# Altium footprint library BD139_TO-126_BEND.PcbLib: 1 footprints
Each footprint in its own frame and in the unit in brackets; x right, y up, seen from the top. Pads: shape width x height; smd on the part's side, far side on the other; paste and mask are expansions set on the pad; w line width, h text height; cw(c..) or ccw(c..) is an arc to the next point about the centre after c.
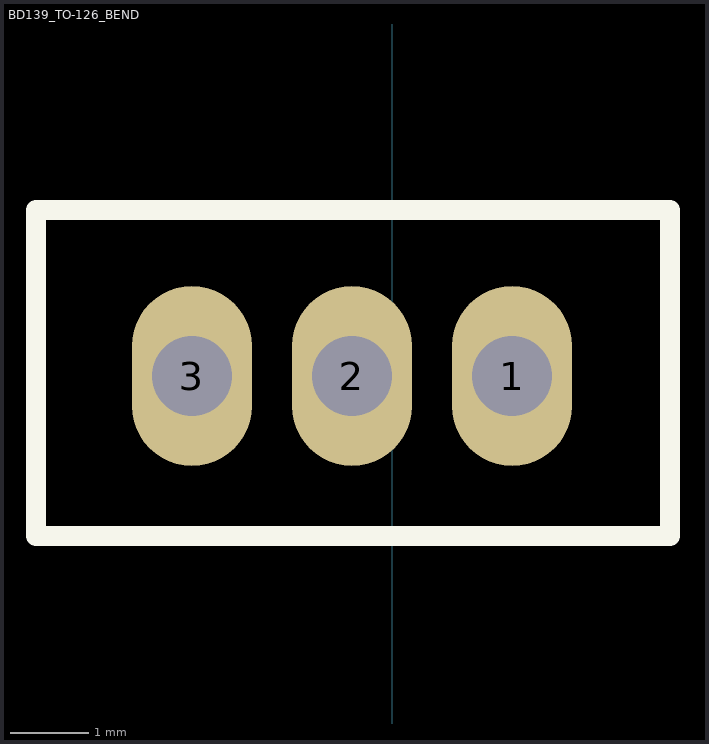
[diagram p0: the footprint, top view; thin cyan lines are the x and y axes]

## BD139_TO-126_BEND [mil]
pads (3):
  oval 60x90 hole 40: 1(60,-645) 2(-20,-645) 3(-100,-645)
Top Overlay:
  lines w10: -178,-725 139,-725 139,-562 -178,-562 -178,-725
Bottom Overlay:
  lines w10: -177,-726 140,-726 140,-564 -177,-564 -177,-726
3D body "TO-126 (bend).STEP": height 916.54, standoff -63.78, extent -177.48,-671.73 137.48,-530